# EAGLE library part TEA5767 (library SaintGimp)
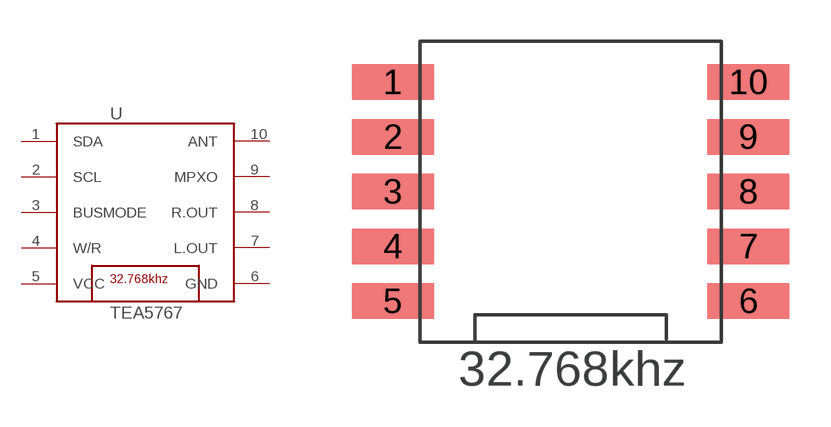
[diagram p14: symbol with the pads of TJ-102BC; footprint TJ-102BC]

Designator prefix -

## TEA5767  [TJ-102BC]
1  SDA
2  SCL
3  BUSMODE
4  W/R
5  VCC
6  GND
7  L.OUT
8  R.OUT
9  MPXO
10  ANT

## Footprint TJ-102BC (pad centres in mm)
smd 3 x 1.3: 1 -2,0.5; 2 -2,-1.5; 3 -2,-3.5; 4 -2,-5.5; 5 -2,-7.5; 6 11,-7.5; 7 11,-5.5; 8 11,-3.5; 9 11,-1.5; 10 11,0.5